# Altium footprint library LED-Driver.PcbLib: 1 footprints
Each footprint in its own frame and in the unit in brackets; x right, y up, seen from the top. Pads: shape width x height; smd on the part's side, far side on the other; paste and mask are expansions set on the pad; w line width, h text height; cw(c..) or ccw(c..) is an arc to the next point about the centre after c.
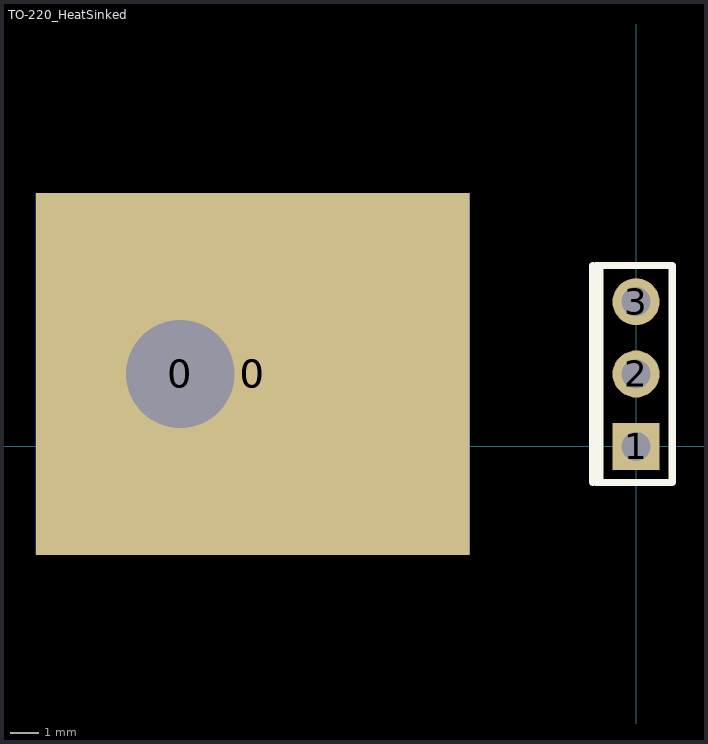
[diagram p0: the footprint, top view; thin cyan lines are the x and y axes]

## TO-220_HeatSinked [mil]
pads (6):
  round 150 hole 150 paste+0 mask+0: 0(-630,100)
  rect 600x500 smd far side: 0(-530,100)
  rect 600x500 smd: 0(-530,100)
  rect 65x65 hole 40: 1(0,0)
  round 65 hole 40: 2(0,100) 3(0,200)
Top Overlay:
  lines w10: -60,-50 -60,250 ; -50,-50 -50,250 ; -55,-50 50,-50 50,250 -55,250 -55,-50
3D body "TO-220_rightAngle.step": height 165.35, standoff -118.11, extent -757.32,-98.11 10,301.89